# Altium footprint library INDUCTORS.PCBLIB: 54 footprints (part 3 of 4)
Each footprint in its own frame and in the unit in brackets; x right, y up, seen from the top. Pads: shape width x height; smd on the part's side, far side on the other; paste and mask are expansions set on the pad; w line width, h text height; cw(c..) or ccw(c..) is an arc to the next point about the centre after c.
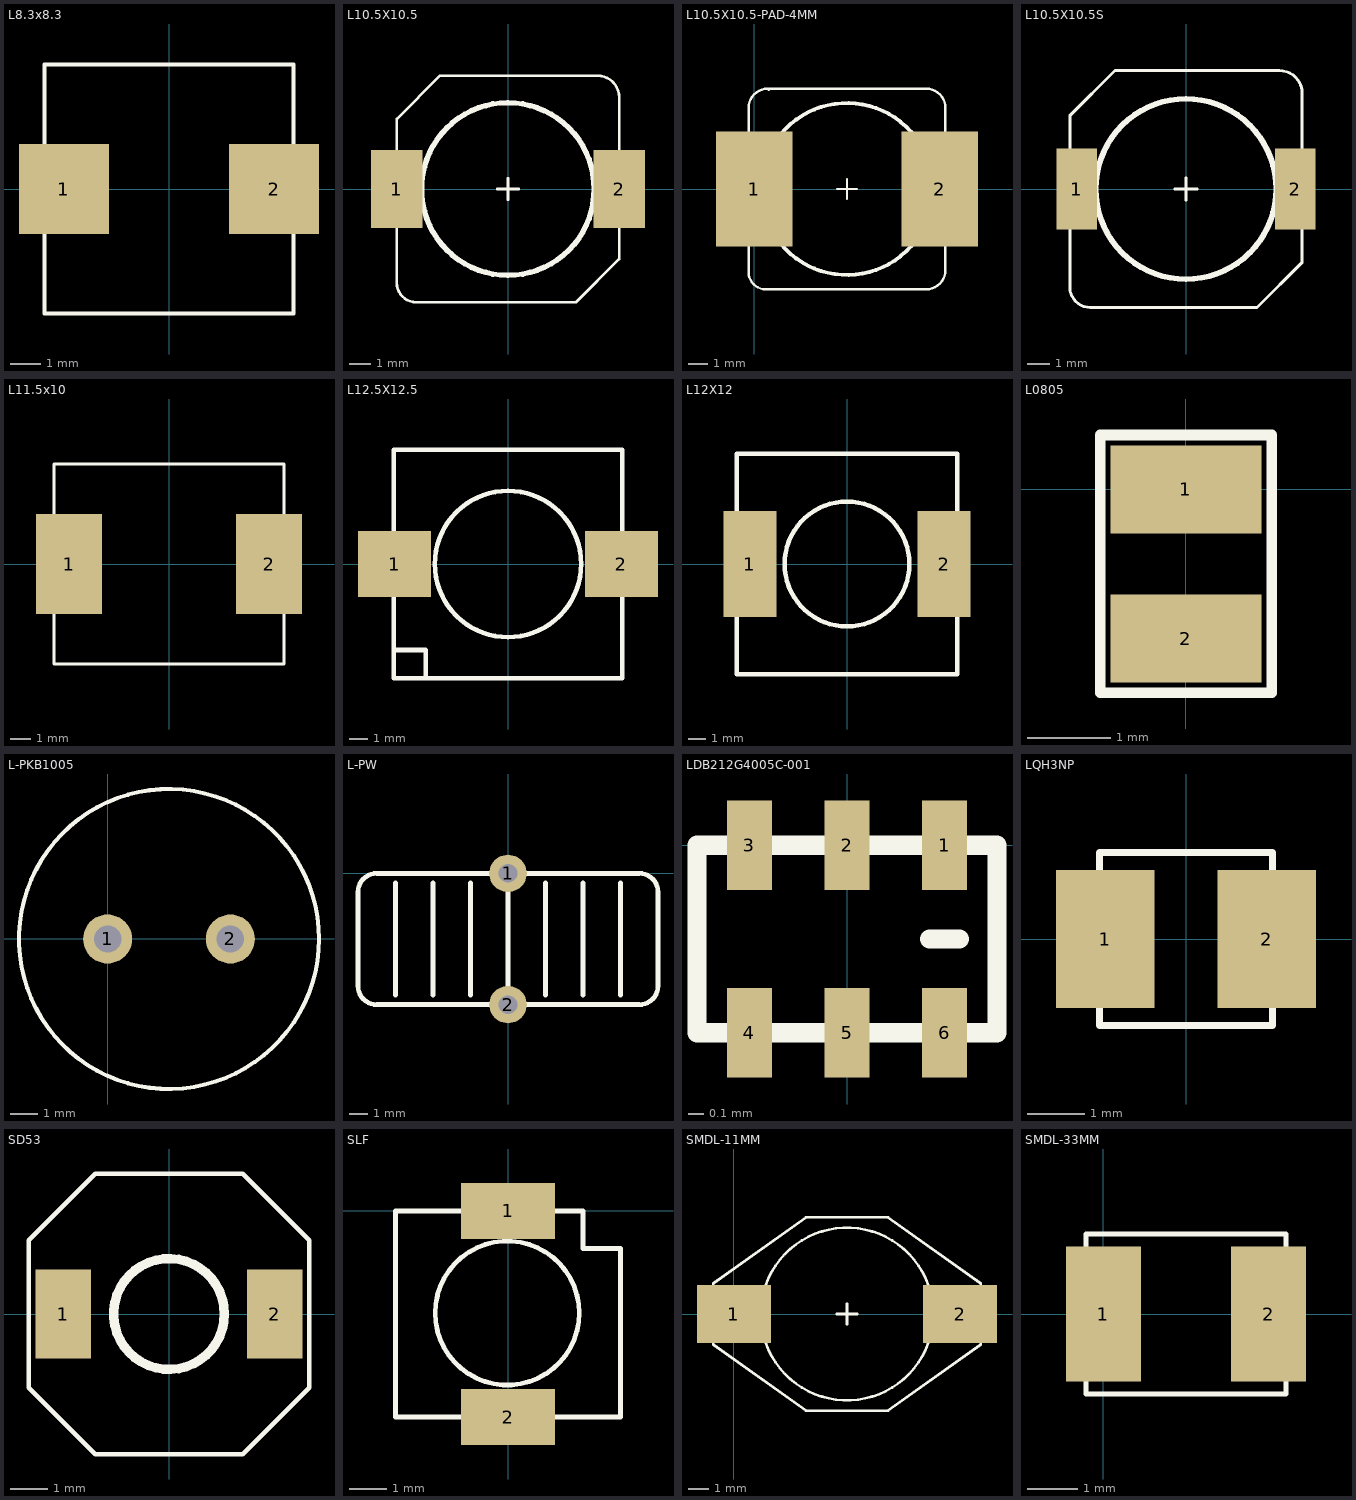
[diagram p2: the footprints below, top view; thin cyan lines are the x and y axes]

## L8.3x8.3 [mm]
pads (2):
  rect 3x3 smd: 1(-3.5,0) 2(3.5,0)
TopOverlay:
  lines w0.127: -4.15,-4.15 4.15,-4.15 4.15,4.15 -4.15,4.15 -4.15,-4.15

## L10.5X10.5 [mm]
pads (2):
  rect 2.4x3.6 smd: 1(-5.15,0) 2(5.15,0)
TopOverlay:
  circle w0.254: c-0.004,0 r4
  lines w0.127: -0.5,0 0.5,0 ; 0,-0.5 0,0.5 ; 3.15,-5.25 -4.25,-5.25 cw(c-4.25,-4.35) -5.15,-4.35 -5.15,-4.25 -5.15,3.25 -3.15,5.25 4.15,5.25 cw(c4.15,4.25) 5.15,4.25 5.15,-3.25 ; 3.15,-5.249 5.15,-3.249

## L10.5X10.5-PAD-4MM [mm]
pads (2):
  rect 4x6 smd: 1(0,0) 2(9.7,0)
TopOverlay:
  circle w0.127: c9,-5.25 r0
  circle w0.127: c0.75,5.2 r0
  circle w0.2: c4.846,0 r4.5
  circle w0.127: c10,4.25 r0
  lines w0.127: 4.35,0 5.35,0 ; 4.85,-0.5 4.85,0.5 ; -0.3,-4.35 ccw(c0.6,-4.35) 0.6,-5.25 9,-5.25 ccw(c9,-4.25) 10,-4.25 10,4.25 ccw(c9,4.25) 9,5.25 0.7,5.25 ccw(c0.7,4.25) -0.3,4.25 -0.3,-4.25 -0.3,-4.35

## L10.5X10.5S [mm]
pads (2):
  rect 1.8x3.6 smd: 1(-4.85,0) 2(4.85,0)
TopOverlay:
  circle w0.254: c-0.004,0 r4
  circle w0.127: c5.15,4.25 r0
  lines w0.127: -0.5,0 0.5,0 ; 0,-0.5 0,0.5 ; 3.15,-5.25 -4.25,-5.25 cw(c-4.25,-4.35) -5.15,-4.35 -5.15,-4.25 -5.15,3.25 -3.15,5.25 4.15,5.25 cw(c4.15,4.25) 5.15,4.25 5.15,-3.25 ; 3.15,-5.249 5.15,-3.249

## L11.5x10 [mm] "L11.5x10"
pads (2):
  rect 3.3x5 smd: 1(-5,0) 2(5,0)
TopOverlay:
  lines w0.127: -5.75,-5 -5.75,5 5.75,5 5.75,-5 -5.75,-5

## L12.5X12.5 [mm]
pads (2):
  rect 4x3.6 smd: 1(-6.2,0) 2(6.2,0)
TopOverlay:
  circle w0.254: c0,0 r4
  lines w0.254: -6.25,-4.7 -4.5,-4.7 -4.5,-6.25 ; -6.25,-6.25 -6.25,0 -6.25,6.25 6.25,6.25 6.25,-6.25 -6.25,-6.25

## L12X12 [mm]
pads (2):
  rect 3x6 smd: 1(-5.5,0) 2(5.5,0)
TopOverlay:
  circle w0.254: c0,0 r3.536
  lines w0.254: -6.25,-6.25 6.25,-6.25 6.25,6.25 -6.25,6.25 -6.25,0 -6.25,-6.25

## L0805 [mm]
pads (2):
  rect 1.8x1.05 smd: 1(0,0) 2(0,-1.78)
TopOverlay:
  lines w0.127: -1.025,-2.425 -1.025,0.65 1.025,0.65 1.025,-2.425 -1.025,-2.425

## L-PKB1005 [mm]
pads (2):
  round 1.8 hole 1: 1(0,0) 2(4.5,0)
TopOverlay:
  circle w0.15: c2.25,0 r5.5

## L-PW [mm]
pads (2):
  round 2 hole 1: 1(0,0) 2(0,-7)
TopOverlay:
  lines w0.254: -6,-6.5 -6,-0.5 ; -4,-6.5 -4,-0.5 ; -2,-6.5 -2,-0.5 ; 0,-6 0,-1 ; 2,-6.5 2,-0.5 ; 4,-6.5 4,-0.5 ; 6,-6.5 6,-0.5 ; -8,-6 ccw(c-7,-6) -7,-7 7,-7 ccw(c7,-6) 8,-6 8,-1 ccw(c7,-1) 7,0 -7,0 ccw(c-7,-1) -8,-1 -8,-6

## LDB212G4005C-001 [mm]
pads (6):
  rect 0.3x0.6 smd: 1(0.65,0) 2(0,0) 3(-0.65,0) 4(-0.65,-1.25) 5(0,-1.25) 6(0.65,-1.25)
TopOverlay:
  lines w0.127: 0.55,-0.625 0.75,-0.625 ; -1,-1.25 1,-1.25 1,0 -1,0 -1,-1.25

## LQH3NP [mm]
pads (2):
  rect 1.7x2.4 smd: 1(-1.4,0) 2(1.4,0)
TopOverlay:
  lines w0.127: -1.5,-1.5 -1.5,1.5 1.5,1.5 1.5,-1.5 -1.5,-1.5

## SD53 [mm]
pads (2):
  rect 1.5x2.4 smd: 1(-2.86,0) 2(2.86,0)
TopOverlay:
  circle w0.254: c0,0 r1.5
  lines w0.127: -3.8,-2 -2,-3.8 2,-3.8 3.8,-2 3.8,2 2,3.8 -2,3.8 -3.8,2 -3.8,-2

## SLF [mm]
pads (2):
  rect 2.5x1.5 smd: 1(0,0) 2(0,-5.5)
TopOverlay:
  circle w0.127: c-0.021,-2.724 r1.921
  lines w0.127: -3,-5.5 3,-5.5 3,-1 2,-1 2,0 -3,0 -3,-5.5

## SMDL-11MM [mm]
pads (2):
  rect 3.6x2.8 smd: 1(0,0) 2(11,0)
TopOverlay:
  circle w0.127: c5.5,0 r4.2
  lines w0.127: 5,0 6,0 ; 5.5,-0.5 5.5,0.5 ; -1,-1.5 3.5,-4.7 7.5,-4.7 12,-1.5 12,1.5 7.5,4.7 3.5,4.7 -1,1.5 -1,-1.5

## SMDL-33MM [mm]
pads (2):
  rect 1.5x2.7 smd: 1(0,0) 2(3.3,0)
TopOverlay:
  lines w0.1: -0.35,-1.6 3.65,-1.6 3.65,1.6 -0.35,1.6 -0.35,-1.6